# Altium integrated library Maxim Sensors.IntLib: 1172 symbols (part 35 of 61)
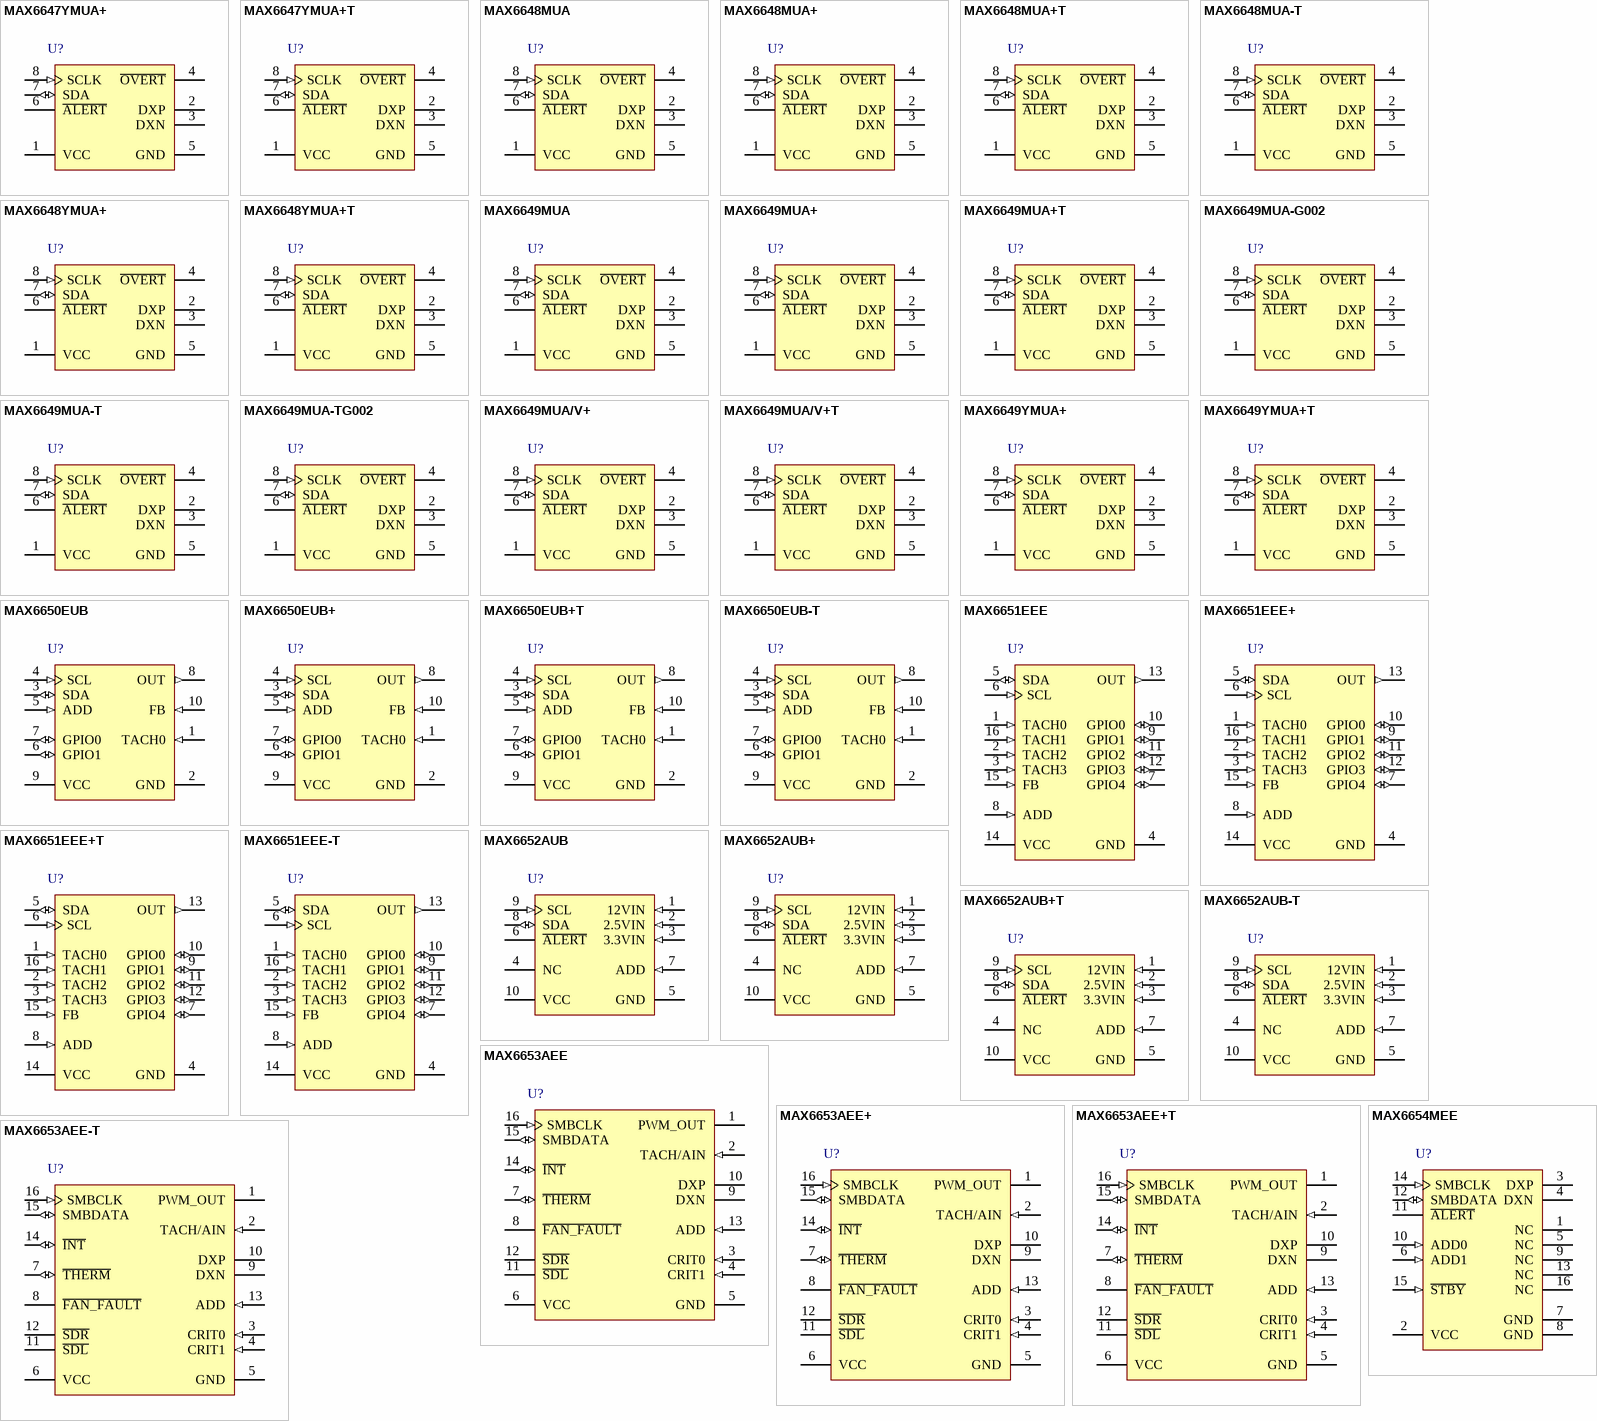
[diagram p67: symbols MAX6647YMUA+ to MAX6654MEE]

## MAX6653AEE+T
designator U?
Temperature Monitor and PWM Fan Controller, -40 to 125 degC, 16-Pin SOP (E16+5), Pb-Free, Tape and Reel; Generic Part Number: MAX6653; PartNumber: MAX6653AEE+T; Fan Controller Functions: Dual Temperature Alarms, Fan Failure Detector ,Remote & Local Sensor; Interface: 2-Wire/I2C/SMBus; DatasheetVersion: Rev. 1; PackageVersion: Rev. K, 04/2012; PackageReference: E16+5; PackageDescription: 16-Pin Quarter Small-Outline Package, Body 3.9 x 4.89 mm, Pitch 0.635 mm; Supplier 1: Digi-Key; Supplier Part Number 1: MAX6653AEE+T-ND; Supplier 2: Mouser; Supplier Part Number 2: 700-MAX6653AEET; Fan Cntrl.: PWM; Packing: Tape and Reel; Mounting Technology: Surface Mount; Code_JEDEC: MO-137; ComponentLink1Description: Manufacturer URL; ComponentLink1URL: http://www.maximintegrated.com/; ComponentLink2Description: Datasheet; ComponentLink2URL: http://datasheets.maximintegrated.com/en/ds/MAX6653-MAX6664.pdf; ComponentLink3Description: Package Specification; ComponentLink3URL: http://pdfserv.maximintegrated.com/package_dwgs/21-0055.PDF
footprint MAXM-E16+5_N (SOP, 16-Leads, Body 4.89x3.9mm, Pitch 0.635mm, IPC Medium Density)
footprint MAXM-E16+5_L (SOP, 16-Leads, Body 4.89x3.9mm, Pitch 0.635mm, IPC High Density)
footprint MAXM-E16+5_M (SOP, 16-Leads, Body 4.89x3.9mm, Pitch 0.635mm, IPC Low Density)
pins: 1 PWM_OUT (oc) "Digital Output (Open Drain). Pulse-width modulated output to external power transistor. Requires a pullup resistor (10k ohm typ).", 2 TACH/AIN (in) "Digital/Analog Input. Fan tachometer input. May be reprogrammed as an analog input to measure speed of a 2-wire fan. See Figure 5.", 3 CRIT0 (in) "Input. Used in conjunction with CRIT1 to set T\H\E\R\M\ and S\H\U\T\D\O\W\N\ default set points (see Table 1).", 4 CRIT1 (in) "Input. Used in conjunction with CRIT0 to set T\H\E\R\M\ and S\H\U\T\D\O\W\N\ default set points (see Table 1).", 5 GND (power) "Ground", 6 VCC (power) "Power Supply. Bypass with a 0.01uF capacitor to GND.", 7 ~{THERM} (io) "Digital I/O (Open Drain). An active-low thermal-overload output to indicate that the overtemperature set point has been exceeded. Also acts as an input to provide external fan control. When this pin is pulled low by an (See Datasheet)", 8 ~{FAN_FAULT} (oc) "Digital Output (Active Low, Open Drain). Signals a fan fault. Requires a pullup resistor (10k ohm typ).", 9 DXN "Combined Current Sink and A/D Negative Input. DXN is internally biased to a diode voltage above ground.", 10 DXP "Combined Current Source and A/D Positive Input for the Remote-Diode Channel. Do not leave DXP floating; connect DXP to DXN if no remote diode is used. Place a 2200pF capacitor between DXP and DXN for noise filtering.", 11 ~{SDL} (oc) "An Active-Low Open-Drain Output. It indicates that local temperature is above the shutdown set point. Normally used to directly deactivate the CPU power supply.", 12 ~{SDR} (oc) "An Active-Low Open-Drain Output. It indicates that remote temperature is above the shutdown set point. Normally used to directly deactivate the CPU power supply.", 13 ADD (in) "Three-State Logic Input. Sets the 2 lower bits of the device SMBus address (Table 2). ADD is not an ordinary logic input pin; ADD should be connected to VCC, GND, or float.", 14 ~{INT} (io) "Digital Output (Open Drain). Can be programmed as an interrupt output for temperature/fan speed interrupts. Requires a pullup resistor (10k ohm typ). For the MAX6653/MAX6663, it can be used also as an input. If pulled low, (See Datasheet)", 15 SMBDATA (io) "SMBus Serial-Data Input/Output (Open Drain). Requires a pullup resistor (10k ohm typ).", 16 SMBCLK (in) "SMBus Serial-Clock Input. Requires a pullup resistor (10k ohm typ)."

## MAX6653AEE-T
designator U?
Temperature Monitor and PWM Fan Controller, -40 to 125 degC, 16-Pin SOP (E16-5), Tape and Reel; Generic Part Number: MAX6653; PartNumber: MAX6653AEE-T; Fan Controller Functions: Dual Temperature Alarms, Fan Failure Detector ,Remote & Local Sensor; Interface: 2-Wire/I2C/SMBus; DatasheetVersion: Rev. 1; PackageVersion: Rev. K, 04/2012; PackageReference: E16-5; PackageDescription: 16-Pin Quarter Small-Outline Package, Body 3.9 x 4.89 mm, Pitch 0.635 mm; Supplier 1: Mouser; Supplier Part Number 1: N/A; Fan Cntrl.: PWM; Packing: Tape and Reel; Mounting Technology: Surface Mount; Code_JEDEC: MO-137; ComponentLink1Description: Manufacturer URL; ComponentLink1URL: http://www.maximintegrated.com/; ComponentLink2Description: Datasheet; ComponentLink2URL: http://datasheets.maximintegrated.com/en/ds/MAX6653-MAX6664.pdf; ComponentLink3Description: Package Specification; ComponentLink3URL: http://pdfserv.maximintegrated.com/package_dwgs/21-0055.PDF
footprint MAXM-E16-5_N (SOP, 16-Leads, Body 4.89x3.9mm, Pitch 0.635mm, IPC Medium Density)
footprint MAXM-E16-5_L (SOP, 16-Leads, Body 4.89x3.9mm, Pitch 0.635mm, IPC High Density)
footprint MAXM-E16-5_M (SOP, 16-Leads, Body 4.89x3.9mm, Pitch 0.635mm, IPC Low Density)
pins: 1 PWM_OUT (oc) "Digital Output (Open Drain). Pulse-width modulated output to external power transistor. Requires a pullup resistor (10k ohm typ).", 2 TACH/AIN (in) "Digital/Analog Input. Fan tachometer input. May be reprogrammed as an analog input to measure speed of a 2-wire fan. See Figure 5.", 3 CRIT0 (in) "Input. Used in conjunction with CRIT1 to set T\H\E\R\M\ and S\H\U\T\D\O\W\N\ default set points (see Table 1).", 4 CRIT1 (in) "Input. Used in conjunction with CRIT0 to set T\H\E\R\M\ and S\H\U\T\D\O\W\N\ default set points (see Table 1).", 5 GND (power) "Ground", 6 VCC (power) "Power Supply. Bypass with a 0.01uF capacitor to GND.", 7 ~{THERM} (io) "Digital I/O (Open Drain). An active-low thermal-overload output to indicate that the overtemperature set point has been exceeded. Also acts as an input to provide external fan control. When this pin is pulled low by an (See Datasheet)", 8 ~{FAN_FAULT} (oc) "Digital Output (Active Low, Open Drain). Signals a fan fault. Requires a pullup resistor (10k ohm typ).", 9 DXN "Combined Current Sink and A/D Negative Input. DXN is internally biased to a diode voltage above ground.", 10 DXP "Combined Current Source and A/D Positive Input for the Remote-Diode Channel. Do not leave DXP floating; connect DXP to DXN if no remote diode is used. Place a 2200pF capacitor between DXP and DXN for noise filtering.", 11 ~{SDL} (oc) "An Active-Low Open-Drain Output. It indicates that local temperature is above the shutdown set point. Normally used to directly deactivate the CPU power supply.", 12 ~{SDR} (oc) "An Active-Low Open-Drain Output. It indicates that remote temperature is above the shutdown set point. Normally used to directly deactivate the CPU power supply.", 13 ADD (in) "Three-State Logic Input. Sets the 2 lower bits of the device SMBus address (Table 2). ADD is not an ordinary logic input pin; ADD should be connected to VCC, GND, or float.", 14 ~{INT} (io) "Digital Output (Open Drain). Can be programmed as an interrupt output for temperature/fan speed interrupts. Requires a pullup resistor (10k ohm typ). For the MAX6653/MAX6663, it can be used also as an input. If pulled low, (See Datasheet)", 15 SMBDATA (io) "SMBus Serial-Data Input/Output (Open Drain). Requires a pullup resistor (10k ohm typ).", 16 SMBCLK (in) "SMBus Serial-Clock Input. Requires a pullup resistor (10k ohm typ)."

## MAX6654MEE
designator U?
1 degrees Accurate Remote / Local Temperature Sensor with SMBus Serial Interface, 11 Bits Temperature Resolution, -55 to 125 degC, 16-Pin SOP (E16-1); Generic Part Number: MAX6654; PartNumber: MAX6654MEE; Alarm Output: Alert; Functions: Remote & Local Sensor; Interface: 2-Wire/I2C/SMBus; Multi Droppable: Yes; Parasite Pwr.: No; DatasheetVersion: Rev. 3; PackageVersion: Rev. K, 04/2012; PackageReference: E16-1; PackageDescription: 16-Pin Quarter Small-Outline Package (E16-1), Body 4.90 x 3.89 mm, Pitch 0.635 mm; Supplier 1: Mouser; Supplier Part Number 1: N/A; Mounting Technology: Surface Mount; Code_JEDEC: MO137; ComponentLink1Description: Manufacturer URL; ComponentLink1URL: http://www.maximintegrated.com/; ComponentLink2Description: Datasheet; ComponentLink2URL: http://datasheets.maximintegrated.com/en/ds/MAX6654.pdf; ComponentLink3Description: Package Specification; ComponentLink3URL: http://pdfserv.maximintegrated.com/package_dwgs/21-0055.PDF
footprint MAXM-E16-1_N (SOP, 16-Leads, Body 4.9x3.89mm, Pitch 0.635mm, IPC Medium Density)
footprint MAXM-E16-1_L (SOP, 16-Leads, Body 4.9x3.89mm, Pitch 0.635mm, IPC High Density)
footprint MAXM-E16-1_M (SOP, 16-Leads, Body 4.9x3.89mm, Pitch 0.635mm, IPC Low Density)
pins: 1 NC "No Connection. Not internally connected. May be used for PC board trace routing.", 2 VCC (power) "Supply Voltage Input. +3.0V to +5.5V. Bypass to GND with a 0.1uF capacitor. A 200ohm series resistor is recommended but not required for additional noise filtering.", 3 DXP "Combined Current Source and ADC Positive Input for Remote-Junction Channel. If a remotesensing junction is not used, connect DXP to DXN.", 4 DXN "Combined Current Sink and ADC Negative Input. DXN is internally biased to a diode voltage above ground.", 5 NC "No Connection. Not internally connected. May be used for PC board trace routing.", 6 ADD1 (in) "SMBus Slave Address Select Input. ADD0 and ADD1 are sampled upon power-up.", 7 GND (power) "Ground", 8 GND (power) "Ground", 9 NC "No Connection. Not internally connected. May be used for PC board trace routing.", 10 ADD0 (in) "SMBus Slave Address Select Input. ADD0 and ADD1 are sampled upon power-up.", 11 ~{ALERT} (oc) "SMBus Alert (Interrupt) Output. Open drain.", 12 SMBDATA (io) "SMBus Serial-Data Input/Output. Open drain.", 13 NC "No Connection. Not internally connected. May be used for PC board trace routing.", 14 SMBCLK (in) "SMBus Serial-Clock Input", 15 ~{STBY} (in) "Hardware Standby Input. Temperature and comparison threshold data are retained in standby mode. Low = standby mode, high = operating mode.", 16 NC "No Connection. Not internally connected. May be used for PC board trace routing."

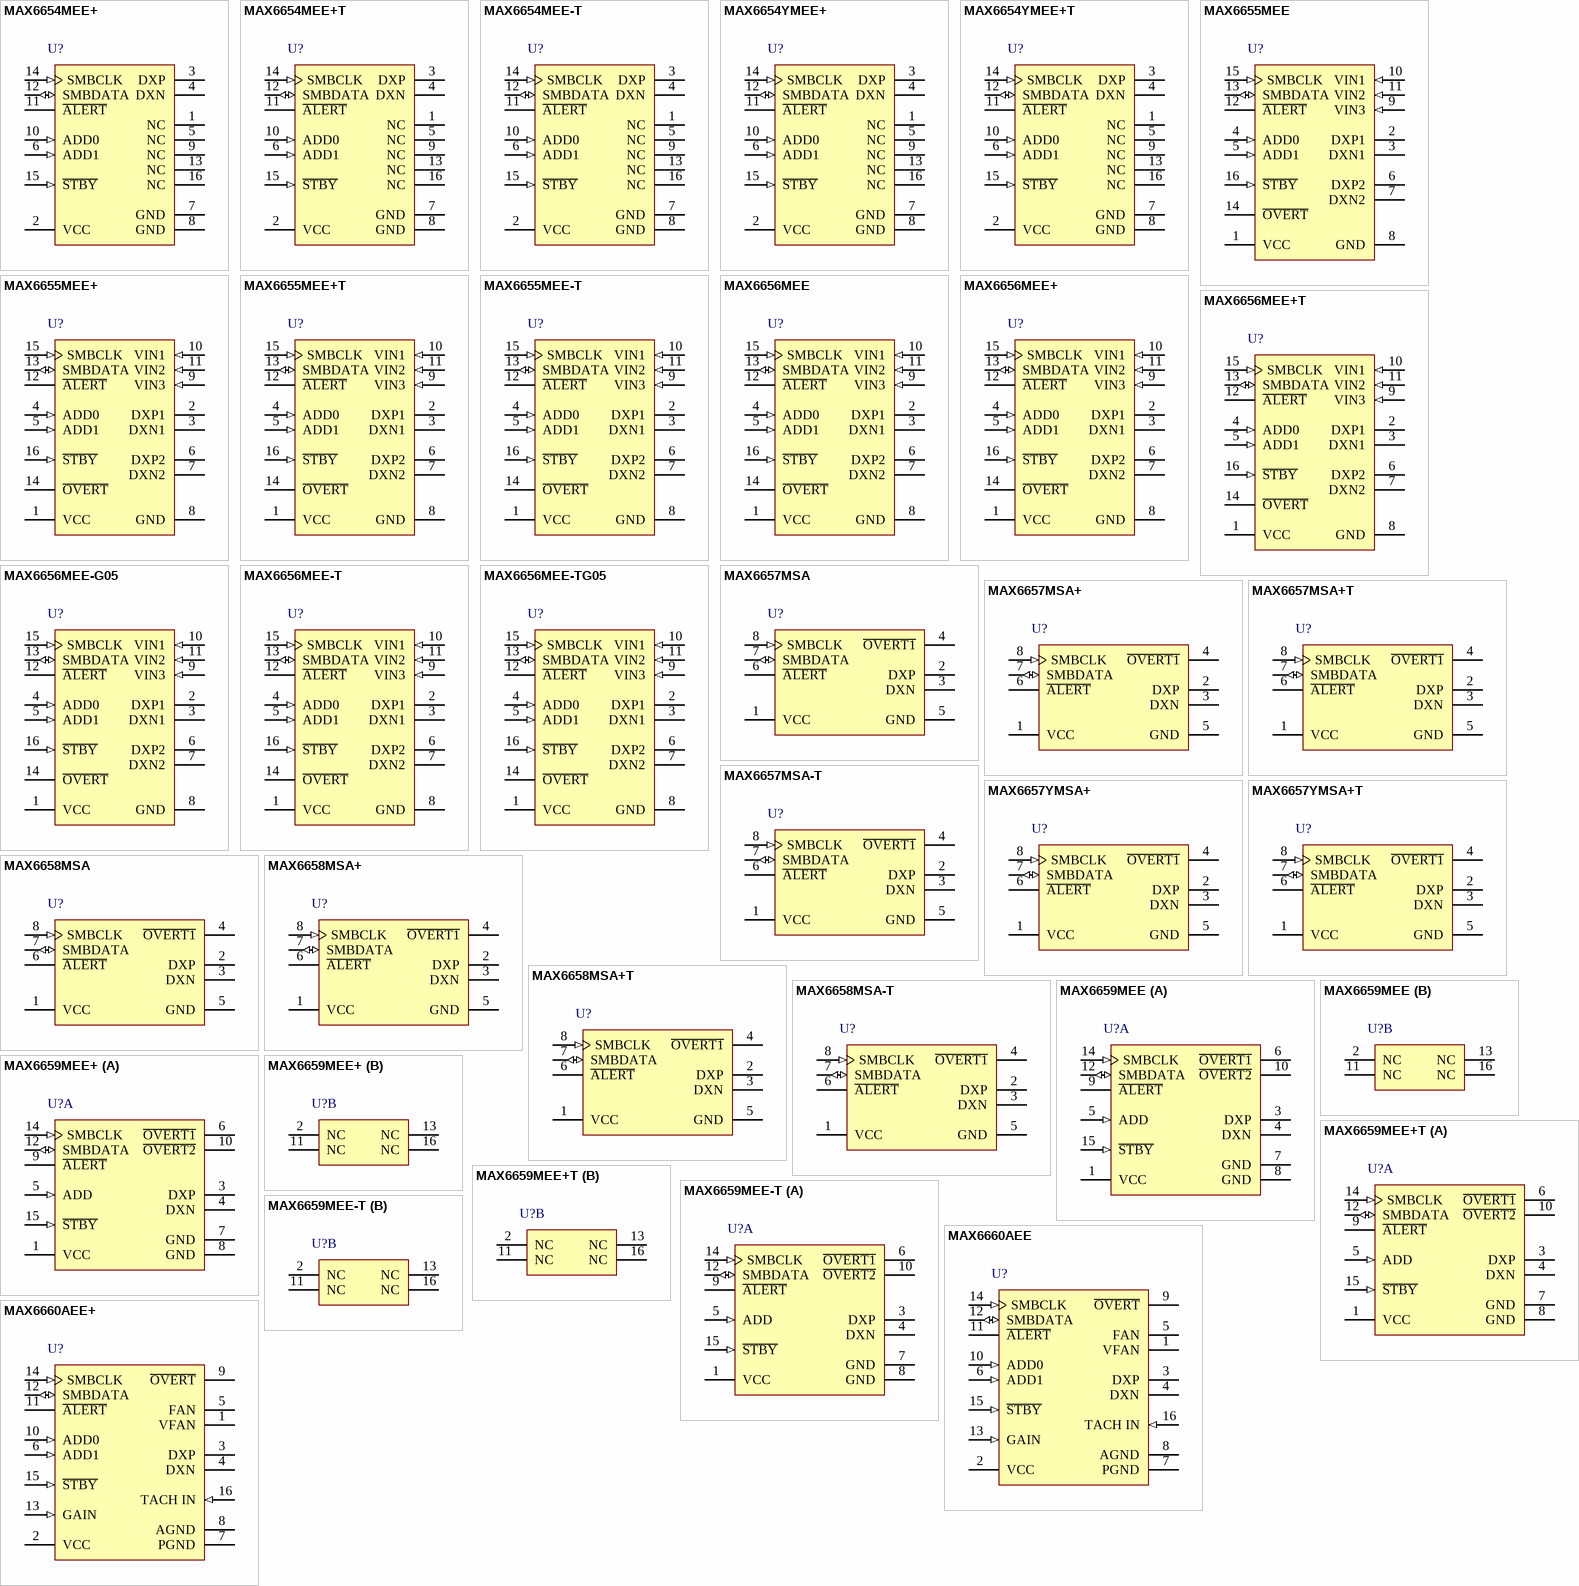
[diagram p20: symbols MAX6654MEE+ to MAX6660AEE+]

## MAX6654MEE+
designator U?
1 degrees Accurate Remote / Local Temperature Sensor with SMBus Serial Interface, 11 Bits Temperature Resolution, -55 to 125 degC, 16-Pin SOP (E16+1), Pb-Free; Generic Part Number: MAX6654; PartNumber: MAX6654MEE+; Alarm Output: Alert; Functions: Remote & Local Sensor; Interface: 2-Wire/I2C/SMBus; Multi Droppable: Yes; Parasite Pwr.: No; DatasheetVersion: Rev. 3; PackageVersion: Rev. K, 04/2012; PackageReference: E16+1; PackageDescription: 16-Pin Quarter Small-Outline Package (E16+1), Body 4.90 x 3.89 mm, Pitch 0.635 mm; Supplier 1: Digi-Key; Supplier Part Number 1: MAX6654MEE+-ND; Supplier 2: Newark; Supplier Part Number 2: 37K8064; Supplier 3: Mouser; Supplier Part Number 3: 700-MAX6654MEE; Mounting Technology: Surface Mount; Code_JEDEC: MO137; ComponentLink1Description: Manufacturer URL; ComponentLink1URL: http://www.maximintegrated.com/; ComponentLink2Description: Datasheet; ComponentLink2URL: http://datasheets.maximintegrated.com/en/ds/MAX6654.pdf; ComponentLink3Description: Package Specification; ComponentLink3URL: http://pdfserv.maximintegrated.com/package_dwgs/21-0055.PDF
footprint MAXM-E16+1_N (SOP, 16-Leads, Body 4.9x3.89mm, Pitch 0.635mm, IPC Medium Density)
footprint MAXM-E16+1_L (SOP, 16-Leads, Body 4.9x3.89mm, Pitch 0.635mm, IPC High Density)
footprint MAXM-E16+1_M (SOP, 16-Leads, Body 4.9x3.89mm, Pitch 0.635mm, IPC Low Density)
pins: 1 NC "No Connection. Not internally connected. May be used for PC board trace routing.", 2 VCC (power) "Supply Voltage Input. +3.0V to +5.5V. Bypass to GND with a 0.1uF capacitor. A 200ohm series resistor is recommended but not required for additional noise filtering.", 3 DXP "Combined Current Source and ADC Positive Input for Remote-Junction Channel. If a remotesensing junction is not used, connect DXP to DXN.", 4 DXN "Combined Current Sink and ADC Negative Input. DXN is internally biased to a diode voltage above ground.", 5 NC "No Connection. Not internally connected. May be used for PC board trace routing.", 6 ADD1 (in) "SMBus Slave Address Select Input. ADD0 and ADD1 are sampled upon power-up.", 7 GND (power) "Ground", 8 GND (power) "Ground", 9 NC "No Connection. Not internally connected. May be used for PC board trace routing.", 10 ADD0 (in) "SMBus Slave Address Select Input. ADD0 and ADD1 are sampled upon power-up.", 11 ~{ALERT} (oc) "SMBus Alert (Interrupt) Output. Open drain.", 12 SMBDATA (io) "SMBus Serial-Data Input/Output. Open drain.", 13 NC "No Connection. Not internally connected. May be used for PC board trace routing.", 14 SMBCLK (in) "SMBus Serial-Clock Input", 15 ~{STBY} (in) "Hardware Standby Input. Temperature and comparison threshold data are retained in standby mode. Low = standby mode, high = operating mode.", 16 NC "No Connection. Not internally connected. May be used for PC board trace routing."

## MAX6654MEE+T
designator U?
1 degrees Accurate Remote / Local Temperature Sensor with SMBus Serial Interface, 11 Bits Temperature Resolution, -55 to 125 degC, 16-Pin SOP (E16+1), Pb-Free, Tape and Reel; Generic Part Number: MAX6654; PartNumber: MAX6654MEE+T; Alarm Output: Alert; Functions: Remote & Local Sensor; Interface: 2-Wire/I2C/SMBus; Multi Droppable: Yes; Parasite Pwr.: No; DatasheetVersion: Rev. 3; PackageVersion: Rev. K, 04/2012; PackageReference: E16+1; PackageDescription: 16-Pin Quarter Small-Outline Package (E16+1), Body 4.90 x 3.89 mm, Pitch 0.635 mm; Supplier 1: Digi-Key; Supplier Part Number 1: MAX6654MEE+TTR-ND; Supplier 2: Digi-Key; Supplier Part Number 2: MAX6654MEE+TCT-ND; Supplier 3: Digi-Key; Supplier Part Number 3: MAX6654MEE+TDKR-ND; Supplier 4: Mouser; Supplier Part Number 4: 700-MAX6654MEET; Packing: Tape and Reel; Mounting Technology: Surface Mount; Code_JEDEC: MO137; ComponentLink1Description: Manufacturer URL; ComponentLink1URL: http://www.maximintegrated.com/; ComponentLink2Description: Datasheet; ComponentLink2URL: http://datasheets.maximintegrated.com/en/ds/MAX6654.pdf; ComponentLink3Description: Package Specification; ComponentLink3URL: http://pdfserv.maximintegrated.com/package_dwgs/21-0055.PDF
footprint MAXM-E16+1_N (SOP, 16-Leads, Body 4.9x3.89mm, Pitch 0.635mm, IPC Medium Density)
footprint MAXM-E16+1_L (SOP, 16-Leads, Body 4.9x3.89mm, Pitch 0.635mm, IPC High Density)
footprint MAXM-E16+1_M (SOP, 16-Leads, Body 4.9x3.89mm, Pitch 0.635mm, IPC Low Density)
pins: 1 NC "No Connection. Not internally connected. May be used for PC board trace routing.", 2 VCC (power) "Supply Voltage Input. +3.0V to +5.5V. Bypass to GND with a 0.1uF capacitor. A 200ohm series resistor is recommended but not required for additional noise filtering.", 3 DXP "Combined Current Source and ADC Positive Input for Remote-Junction Channel. If a remotesensing junction is not used, connect DXP to DXN.", 4 DXN "Combined Current Sink and ADC Negative Input. DXN is internally biased to a diode voltage above ground.", 5 NC "No Connection. Not internally connected. May be used for PC board trace routing.", 6 ADD1 (in) "SMBus Slave Address Select Input. ADD0 and ADD1 are sampled upon power-up.", 7 GND (power) "Ground", 8 GND (power) "Ground", 9 NC "No Connection. Not internally connected. May be used for PC board trace routing.", 10 ADD0 (in) "SMBus Slave Address Select Input. ADD0 and ADD1 are sampled upon power-up.", 11 ~{ALERT} (oc) "SMBus Alert (Interrupt) Output. Open drain.", 12 SMBDATA (io) "SMBus Serial-Data Input/Output. Open drain.", 13 NC "No Connection. Not internally connected. May be used for PC board trace routing.", 14 SMBCLK (in) "SMBus Serial-Clock Input", 15 ~{STBY} (in) "Hardware Standby Input. Temperature and comparison threshold data are retained in standby mode. Low = standby mode, high = operating mode.", 16 NC "No Connection. Not internally connected. May be used for PC board trace routing."

## MAX6654MEE-T
designator U?
1 degrees Accurate Remote / Local Temperature Sensor with SMBus Serial Interface, 11 Bits Temperature Resolution, -55 to 125 degC, 16-Pin SOP (E16-1), Tape and Reel; Generic Part Number: MAX6654; PartNumber: MAX6654MEE-T; Alarm Output: Alert; Functions: Remote & Local Sensor; Interface: 2-Wire/I2C/SMBus; Multi Droppable: Yes; Parasite Pwr.: No; DatasheetVersion: Rev. 3; PackageVersion: Rev. K, 04/2012; PackageReference: E16-1; PackageDescription: 16-Pin Quarter Small-Outline Package (E16-1), Body 4.90 x 3.89 mm, Pitch 0.635 mm; Supplier 1: Mouser; Supplier Part Number 1: N/A; Packing: Tape and Reel; Mounting Technology: Surface Mount; Code_JEDEC: MO137; ComponentLink1Description: Manufacturer URL; ComponentLink1URL: http://www.maximintegrated.com/; ComponentLink2Description: Datasheet; ComponentLink2URL: http://datasheets.maximintegrated.com/en/ds/MAX6654.pdf; ComponentLink3Description: Package Specification; ComponentLink3URL: http://pdfserv.maximintegrated.com/package_dwgs/21-0055.PDF
footprint MAXM-E16-1_N (SOP, 16-Leads, Body 4.9x3.89mm, Pitch 0.635mm, IPC Medium Density)
footprint MAXM-E16-1_L (SOP, 16-Leads, Body 4.9x3.89mm, Pitch 0.635mm, IPC High Density)
footprint MAXM-E16-1_M (SOP, 16-Leads, Body 4.9x3.89mm, Pitch 0.635mm, IPC Low Density)
pins: 1 NC "No Connection. Not internally connected. May be used for PC board trace routing.", 2 VCC (power) "Supply Voltage Input. +3.0V to +5.5V. Bypass to GND with a 0.1uF capacitor. A 200ohm series resistor is recommended but not required for additional noise filtering.", 3 DXP "Combined Current Source and ADC Positive Input for Remote-Junction Channel. If a remotesensing junction is not used, connect DXP to DXN.", 4 DXN "Combined Current Sink and ADC Negative Input. DXN is internally biased to a diode voltage above ground.", 5 NC "No Connection. Not internally connected. May be used for PC board trace routing.", 6 ADD1 (in) "SMBus Slave Address Select Input. ADD0 and ADD1 are sampled upon power-up.", 7 GND (power) "Ground", 8 GND (power) "Ground", 9 NC "No Connection. Not internally connected. May be used for PC board trace routing.", 10 ADD0 (in) "SMBus Slave Address Select Input. ADD0 and ADD1 are sampled upon power-up.", 11 ~{ALERT} (oc) "SMBus Alert (Interrupt) Output. Open drain.", 12 SMBDATA (io) "SMBus Serial-Data Input/Output. Open drain.", 13 NC "No Connection. Not internally connected. May be used for PC board trace routing.", 14 SMBCLK (in) "SMBus Serial-Clock Input", 15 ~{STBY} (in) "Hardware Standby Input. Temperature and comparison threshold data are retained in standby mode. Low = standby mode, high = operating mode.", 16 NC "No Connection. Not internally connected. May be used for PC board trace routing."

## MAX6654YMEE+
designator U?
1 degrees Accurate Remote / Local Temperature Sensor with SMBus Serial Interface, 11 Bits Temperature Resolution, -55 to 125 degC, 16-Pin SOP (E16+1), Pb-Free; Generic Part Number: MAX6654; PartNumber: MAX6654YMEE+; Alarm Output: Alert; Functions: Remote & Local Sensor; Interface: 2-Wire/I2C/SMBus; Multi Droppable: Yes; Parasite Pwr.: No; DatasheetVersion: Rev. 3; PackageVersion: Rev. K, 04/2012; PackageReference: E16+1; PackageDescription: 16-Pin Quarter Small-Outline Package (E16+1), Body 4.90 x 3.89 mm, Pitch 0.635 mm; Supplier 1: Digi-Key; Supplier Part Number 1: MAX6654YMEE+-ND; Supplier 2: Mouser; Supplier Part Number 2: 700-MAX6654YMEE; Mounting Technology: Surface Mount; Code_JEDEC: MO137; ComponentLink1Description: Manufacturer URL; ComponentLink1URL: http://www.maximintegrated.com/; ComponentLink2Description: Datasheet; ComponentLink2URL: http://datasheets.maximintegrated.com/en/ds/MAX6654.pdf; ComponentLink3Description: Package Specification; ComponentLink3URL: http://pdfserv.maximintegrated.com/package_dwgs/21-0055.PDF
footprint MAXM-E16+1_N (SOP, 16-Leads, Body 4.9x3.89mm, Pitch 0.635mm, IPC Medium Density)
footprint MAXM-E16+1_L (SOP, 16-Leads, Body 4.9x3.89mm, Pitch 0.635mm, IPC High Density)
footprint MAXM-E16+1_M (SOP, 16-Leads, Body 4.9x3.89mm, Pitch 0.635mm, IPC Low Density)
pins: 1 NC "No Connection. Not internally connected. May be used for PC board trace routing.", 2 VCC (power) "Supply Voltage Input. +3.0V to +5.5V. Bypass to GND with a 0.1uF capacitor. A 200ohm series resistor is recommended but not required for additional noise filtering.", 3 DXP "Combined Current Source and ADC Positive Input for Remote-Junction Channel. If a remotesensing junction is not used, connect DXP to DXN.", 4 DXN "Combined Current Sink and ADC Negative Input. DXN is internally biased to a diode voltage above ground.", 5 NC "No Connection. Not internally connected. May be used for PC board trace routing.", 6 ADD1 (in) "SMBus Slave Address Select Input. ADD0 and ADD1 are sampled upon power-up.", 7 GND (power) "Ground", 8 GND (power) "Ground", 9 NC "No Connection. Not internally connected. May be used for PC board trace routing.", 10 ADD0 (in) "SMBus Slave Address Select Input. ADD0 and ADD1 are sampled upon power-up.", 11 ~{ALERT} (oc) "SMBus Alert (Interrupt) Output. Open drain.", 12 SMBDATA (io) "SMBus Serial-Data Input/Output. Open drain.", 13 NC "No Connection. Not internally connected. May be used for PC board trace routing.", 14 SMBCLK (in) "SMBus Serial-Clock Input", 15 ~{STBY} (in) "Hardware Standby Input. Temperature and comparison threshold data are retained in standby mode. Low = standby mode, high = operating mode.", 16 NC "No Connection. Not internally connected. May be used for PC board trace routing."

## MAX6654YMEE+T
designator U?
1 degrees Accurate Remote / Local Temperature Sensor with SMBus Serial Interface, 11 Bits Temperature Resolution, -55 to 125 degC, 16-Pin SOP (E16+1), Pb-Free, Tape and Reel; Generic Part Number: MAX6654; PartNumber: MAX6654YMEE+T; Alarm Output: Alert; Functions: Remote & Local Sensor; Interface: 2-Wire/I2C/SMBus; Multi Droppable: Yes; Parasite Pwr.: No; DatasheetVersion: Rev. 3; PackageVersion: Rev. K, 04/2012; PackageReference: E16+1; PackageDescription: 16-Pin Quarter Small-Outline Package (E16+1), Body 4.90 x 3.89 mm, Pitch 0.635 mm; Supplier 1: Digi-Key; Supplier Part Number 1: MAX6654YMEE+T-ND; Supplier 2: Mouser; Supplier Part Number 2: 700-MAX6654YMEET; Packing: Tape and Reel; Mounting Technology: Surface Mount; Code_JEDEC: MO137; ComponentLink1Description: Manufacturer URL; ComponentLink1URL: http://www.maximintegrated.com/; ComponentLink2Description: Datasheet; ComponentLink2URL: http://datasheets.maximintegrated.com/en/ds/MAX6654.pdf; ComponentLink3Description: Package Specification; ComponentLink3URL: http://pdfserv.maximintegrated.com/package_dwgs/21-0055.PDF
footprint MAXM-E16+1_N (SOP, 16-Leads, Body 4.9x3.89mm, Pitch 0.635mm, IPC Medium Density)
footprint MAXM-E16+1_L (SOP, 16-Leads, Body 4.9x3.89mm, Pitch 0.635mm, IPC High Density)
footprint MAXM-E16+1_M (SOP, 16-Leads, Body 4.9x3.89mm, Pitch 0.635mm, IPC Low Density)
pins: 1 NC "No Connection. Not internally connected. May be used for PC board trace routing.", 2 VCC (power) "Supply Voltage Input. +3.0V to +5.5V. Bypass to GND with a 0.1uF capacitor. A 200ohm series resistor is recommended but not required for additional noise filtering.", 3 DXP "Combined Current Source and ADC Positive Input for Remote-Junction Channel. If a remotesensing junction is not used, connect DXP to DXN.", 4 DXN "Combined Current Sink and ADC Negative Input. DXN is internally biased to a diode voltage above ground.", 5 NC "No Connection. Not internally connected. May be used for PC board trace routing.", 6 ADD1 (in) "SMBus Slave Address Select Input. ADD0 and ADD1 are sampled upon power-up.", 7 GND (power) "Ground", 8 GND (power) "Ground", 9 NC "No Connection. Not internally connected. May be used for PC board trace routing.", 10 ADD0 (in) "SMBus Slave Address Select Input. ADD0 and ADD1 are sampled upon power-up.", 11 ~{ALERT} (oc) "SMBus Alert (Interrupt) Output. Open drain.", 12 SMBDATA (io) "SMBus Serial-Data Input/Output. Open drain.", 13 NC "No Connection. Not internally connected. May be used for PC board trace routing.", 14 SMBCLK (in) "SMBus Serial-Clock Input", 15 ~{STBY} (in) "Hardware Standby Input. Temperature and comparison threshold data are retained in standby mode. Low = standby mode, high = operating mode.", 16 NC "No Connection. Not internally connected. May be used for PC board trace routing."

## MAX6655MEE
designator U?
Dual Remote / Local Temperature Sensor and Four-Channel Voltage Monitor, 11 Bits Temperature Resolution, -55 to 125 degC, 16-Pin SOP (E16+5); Generic Part Number: MAX6655; PartNumber: MAX6655MEE; Alarm Output: Alert, Overt; Functions: Remote & Local Sensor, Voltage Monitor; Interface: 2-Wire/I2C/SMBus; Multi Droppable: Yes; Parasite Pwr.: No; DatasheetVersion: Rev. 1; PackageVersion: Rev. K, 04/2012; PackageReference: E16-5; PackageDescription: 16-Pin Quarter Small-Outline Package, Body 3.9 x 4.89 mm, Pitch 0.635 mm; Supplier 1: Mouser; Supplier Part Number 1: N/A; Mounting Technology: Surface Mount; Code_JEDEC: MO-137; ComponentLink1Description: Manufacturer URL; ComponentLink1URL: http://www.maximintegrated.com/; ComponentLink2Description: Datasheet; ComponentLink2URL: http://datasheets.maximintegrated.com/en/ds/MAX6655-MAX6656.pdf; ComponentLink3Description: Package Specification; ComponentLink3URL: http://pdfserv.maximintegrated.com/package_dwgs/21-0055.PDF
footprint MAXM-E16-5_N (SOP, 16-Leads, Body 4.89x3.9mm, Pitch 0.635mm, IPC Medium Density)
footprint MAXM-E16-5_L (SOP, 16-Leads, Body 4.89x3.9mm, Pitch 0.635mm, IPC High Density)
footprint MAXM-E16-5_M (SOP, 16-Leads, Body 4.89x3.9mm, Pitch 0.635mm, IPC Low Density)
pins: 1 VCC (power) "Supply Voltage. +5V for MAX6655; +3.3V for MAX6656. Bypass VCC to GND with a 0.1µF capacitor.", 2 DXP1 "External Diode 1 Positive Connection. DXP1 is the combined current source and ADC positive input for remote-diode 1. If a remote-sensing junction is not used, connect DXP1 to DXN1.", 3 DXN1 "External Diode 1 Negative Connection. DXN1 is the combined current sink and ADC negative input for remote-diode 1. DXN1 is normally biased to a diode voltage above ground.", 4 ADD0 (in) "SMBus Slave Address Select Input. ADD0 and ADD1 are sampled upon power-up. Table 5 is the truth table", 5 ADD1 (in) "SMBus Slave Address Select Input. ADD0 and ADD1 are sampled upon power-up.", 6 DXP2 "External Diode 2 Positive Connection. DXP2 is the combined current source and ADC positive input for remote-diode 2. If a remote-sensing junction is not used, connect DXP2 to DXN2.", 7 DXN2 "External Diode 2 Negative Connection. DXN2 is the combined current sink and ADC negative input for remote-diode 2. DXN2 is normally biased to a diode voltage above ground.", 8 GND (power) "Ground", 9 VIN3 (in) "External Voltage Monitor 3. VIN3 is typically used to monitor +2.5V supplies.", 10 VIN1 (in) "External Voltage Monitor 1. VIN1 is typically used to monitor +12V supplies.", 11 VIN2 (in) "External Voltage Monitor 2. VIN2 is typically used to monitor voltage supplies of +3.3V for MAX6655 and +5.0V for MAX6656.", 12 ~{ALERT} (oc) "SMBus Alert (Interrupt) Output, Open-Drain", 13 SMBDATA (io) "SMBus Serial-Data Input/Output, Open-Drain", 14 ~{OVERT} (oc) "Overtemperature Alarm Output, Open-Drain. O\V\E\R\T\ is an unlatched alarm output that responds to the programmed maximum temperature limit for all temperature channels.", 15 SMBCLK (in) "SMBus Serial-Clock Input", 16 ~{STBY} (in) "Hardware Standby Input. Drive S\T\B\Y\ low for low-power standby mode. Drive S\T\B\Y\ high for normal operating mode. Temperature and comparison threshold data are retained in standby mode."

## MAX6655MEE+
designator U?
Dual Remote / Local Temperature Sensor and Four-Channel Voltage Monitor, 11 Bits Temperature Resolution, -55 to 125 degC, 16-Pin SOP (E16+5), Pb-Free; Generic Part Number: MAX6655; PartNumber: MAX6655MEE+; Alarm Output: Alert, Overt; Functions: Remote & Local Sensor, Voltage Monitor; Interface: 2-Wire/I2C/SMBus; Multi Droppable: Yes; Parasite Pwr.: No; DatasheetVersion: Rev. 1; PackageVersion: Rev. K, 04/2012; PackageReference: E16+5; PackageDescription: 16-Pin Quarter Small-Outline Package, Body 3.9 x 4.89 mm, Pitch 0.635 mm; Supplier 1: Digi-Key; Supplier Part Number 1: MAX6655MEE+-ND; Supplier 2: Mouser; Supplier Part Number 2: 700-MAX6655MEE; Mounting Technology: Surface Mount; Code_JEDEC: MO-137; ComponentLink1Description: Manufacturer URL; ComponentLink1URL: http://www.maximintegrated.com/; ComponentLink2Description: Datasheet; ComponentLink2URL: http://datasheets.maximintegrated.com/en/ds/MAX6655-MAX6656.pdf; ComponentLink3Description: Package Specification; ComponentLink3URL: http://pdfserv.maximintegrated.com/package_dwgs/21-0055.PDF
footprint MAXM-E16+5_N (SOP, 16-Leads, Body 4.89x3.9mm, Pitch 0.635mm, IPC Medium Density)
footprint MAXM-E16+5_L (SOP, 16-Leads, Body 4.89x3.9mm, Pitch 0.635mm, IPC High Density)
footprint MAXM-E16+5_M (SOP, 16-Leads, Body 4.89x3.9mm, Pitch 0.635mm, IPC Low Density)
pins: 1 VCC (power) "Supply Voltage. +5V for MAX6655; +3.3V for MAX6656. Bypass VCC to GND with a 0.1µF capacitor.", 2 DXP1 "External Diode 1 Positive Connection. DXP1 is the combined current source and ADC positive input for remote-diode 1. If a remote-sensing junction is not used, connect DXP1 to DXN1.", 3 DXN1 "External Diode 1 Negative Connection. DXN1 is the combined current sink and ADC negative input for remote-diode 1. DXN1 is normally biased to a diode voltage above ground.", 4 ADD0 (in) "SMBus Slave Address Select Input. ADD0 and ADD1 are sampled upon power-up. Table 5 is the truth table", 5 ADD1 (in) "SMBus Slave Address Select Input. ADD0 and ADD1 are sampled upon power-up.", 6 DXP2 "External Diode 2 Positive Connection. DXP2 is the combined current source and ADC positive input for remote-diode 2. If a remote-sensing junction is not used, connect DXP2 to DXN2.", 7 DXN2 "External Diode 2 Negative Connection. DXN2 is the combined current sink and ADC negative input for remote-diode 2. DXN2 is normally biased to a diode voltage above ground.", 8 GND (power) "Ground", 9 VIN3 (in) "External Voltage Monitor 3. VIN3 is typically used to monitor +2.5V supplies.", 10 VIN1 (in) "External Voltage Monitor 1. VIN1 is typically used to monitor +12V supplies.", 11 VIN2 (in) "External Voltage Monitor 2. VIN2 is typically used to monitor voltage supplies of +3.3V for MAX6655 and +5.0V for MAX6656.", 12 ~{ALERT} (oc) "SMBus Alert (Interrupt) Output, Open-Drain", 13 SMBDATA (io) "SMBus Serial-Data Input/Output, Open-Drain", 14 ~{OVERT} (oc) "Overtemperature Alarm Output, Open-Drain. O\V\E\R\T\ is an unlatched alarm output that responds to the programmed maximum temperature limit for all temperature channels.", 15 SMBCLK (in) "SMBus Serial-Clock Input", 16 ~{STBY} (in) "Hardware Standby Input. Drive S\T\B\Y\ low for low-power standby mode. Drive S\T\B\Y\ high for normal operating mode. Temperature and comparison threshold data are retained in standby mode."

## MAX6655MEE+T
designator U?
Dual Remote / Local Temperature Sensor and Four-Channel Voltage Monitor, 11 Bits Temperature Resolution, -55 to 125 degC, 16-Pin SOP (E16+5), Pb-Free, Tape and Reel; Generic Part Number: MAX6655; PartNumber: MAX6655MEE+T; Alarm Output: Alert, Overt; Functions: Remote & Local Sensor, Voltage Monitor; Interface: 2-Wire/I2C/SMBus; Multi Droppable: Yes; Parasite Pwr.: No; DatasheetVersion: Rev. 1; PackageVersion: Rev. K, 04/2012; PackageReference: E16+5; PackageDescription: 16-Pin Quarter Small-Outline Package, Body 3.9 x 4.89 mm, Pitch 0.635 mm; Supplier 1: Digi-Key; Supplier Part Number 1: MAX6655MEE+T-ND; Supplier 2: Mouser; Supplier Part Number 2: 700-MAX6655MEET; Packing: Tape and Reel; Mounting Technology: Surface Mount; Code_JEDEC: MO-137; ComponentLink1Description: Manufacturer URL; ComponentLink1URL: http://www.maximintegrated.com/; ComponentLink2Description: Datasheet; ComponentLink2URL: http://datasheets.maximintegrated.com/en/ds/MAX6655-MAX6656.pdf; ComponentLink3Description: Package Specification; ComponentLink3URL: http://pdfserv.maximintegrated.com/package_dwgs/21-0055.PDF
footprint MAXM-E16+5_N (SOP, 16-Leads, Body 4.89x3.9mm, Pitch 0.635mm, IPC Medium Density)
footprint MAXM-E16+5_L (SOP, 16-Leads, Body 4.89x3.9mm, Pitch 0.635mm, IPC High Density)
footprint MAXM-E16+5_M (SOP, 16-Leads, Body 4.89x3.9mm, Pitch 0.635mm, IPC Low Density)
pins: 1 VCC (power) "Supply Voltage. +5V for MAX6655; +3.3V for MAX6656. Bypass VCC to GND with a 0.1µF capacitor.", 2 DXP1 "External Diode 1 Positive Connection. DXP1 is the combined current source and ADC positive input for remote-diode 1. If a remote-sensing junction is not used, connect DXP1 to DXN1.", 3 DXN1 "External Diode 1 Negative Connection. DXN1 is the combined current sink and ADC negative input for remote-diode 1. DXN1 is normally biased to a diode voltage above ground.", 4 ADD0 (in) "SMBus Slave Address Select Input. ADD0 and ADD1 are sampled upon power-up. Table 5 is the truth table", 5 ADD1 (in) "SMBus Slave Address Select Input. ADD0 and ADD1 are sampled upon power-up.", 6 DXP2 "External Diode 2 Positive Connection. DXP2 is the combined current source and ADC positive input for remote-diode 2. If a remote-sensing junction is not used, connect DXP2 to DXN2.", 7 DXN2 "External Diode 2 Negative Connection. DXN2 is the combined current sink and ADC negative input for remote-diode 2. DXN2 is normally biased to a diode voltage above ground.", 8 GND (power) "Ground", 9 VIN3 (in) "External Voltage Monitor 3. VIN3 is typically used to monitor +2.5V supplies.", 10 VIN1 (in) "External Voltage Monitor 1. VIN1 is typically used to monitor +12V supplies.", 11 VIN2 (in) "External Voltage Monitor 2. VIN2 is typically used to monitor voltage supplies of +3.3V for MAX6655 and +5.0V for MAX6656.", 12 ~{ALERT} (oc) "SMBus Alert (Interrupt) Output, Open-Drain", 13 SMBDATA (io) "SMBus Serial-Data Input/Output, Open-Drain", 14 ~{OVERT} (oc) "Overtemperature Alarm Output, Open-Drain. O\V\E\R\T\ is an unlatched alarm output that responds to the programmed maximum temperature limit for all temperature channels.", 15 SMBCLK (in) "SMBus Serial-Clock Input", 16 ~{STBY} (in) "Hardware Standby Input. Drive S\T\B\Y\ low for low-power standby mode. Drive S\T\B\Y\ high for normal operating mode. Temperature and comparison threshold data are retained in standby mode."

## MAX6655MEE-T
designator U?
Dual Remote / Local Temperature Sensor and Four-Channel Voltage Monitor, 11 Bits Temperature Resolution, -55 to 125 degC, 16-Pin SOP (E16-5),Tape and Reel; Generic Part Number: MAX6655; PartNumber: MAX6655MEE-T; Alarm Output: Alert, Overt; Functions: Remote & Local Sensor, Voltage Monitor; Interface: 2-Wire/I2C/SMBus; Multi Droppable: Yes; Parasite Pwr.: No; DatasheetVersion: Rev. 1; PackageVersion: Rev. K, 04/2012; PackageReference: E16-5; PackageDescription: 16-Pin Quarter Small-Outline Package, Body 3.9 x 4.89 mm, Pitch 0.635 mm; Supplier 1: Mouser; Supplier Part Number 1: N/A; Packing: Tape and Reel; Mounting Technology: Surface Mount; Code_JEDEC: MO-137; ComponentLink1Description: Manufacturer URL; ComponentLink1URL: http://www.maximintegrated.com/; ComponentLink2Description: Datasheet; ComponentLink2URL: http://datasheets.maximintegrated.com/en/ds/MAX6655-MAX6656.pdf; ComponentLink3Description: Package Specification; ComponentLink3URL: http://pdfserv.maximintegrated.com/package_dwgs/21-0055.PDF
footprint MAXM-E16-5_N (SOP, 16-Leads, Body 4.89x3.9mm, Pitch 0.635mm, IPC Medium Density)
footprint MAXM-E16-5_L (SOP, 16-Leads, Body 4.89x3.9mm, Pitch 0.635mm, IPC High Density)
footprint MAXM-E16-5_M (SOP, 16-Leads, Body 4.89x3.9mm, Pitch 0.635mm, IPC Low Density)
pins: 1 VCC (power) "Supply Voltage. +5V for MAX6655; +3.3V for MAX6656. Bypass VCC to GND with a 0.1µF capacitor.", 2 DXP1 "External Diode 1 Positive Connection. DXP1 is the combined current source and ADC positive input for remote-diode 1. If a remote-sensing junction is not used, connect DXP1 to DXN1.", 3 DXN1 "External Diode 1 Negative Connection. DXN1 is the combined current sink and ADC negative input for remote-diode 1. DXN1 is normally biased to a diode voltage above ground.", 4 ADD0 (in) "SMBus Slave Address Select Input. ADD0 and ADD1 are sampled upon power-up. Table 5 is the truth table", 5 ADD1 (in) "SMBus Slave Address Select Input. ADD0 and ADD1 are sampled upon power-up.", 6 DXP2 "External Diode 2 Positive Connection. DXP2 is the combined current source and ADC positive input for remote-diode 2. If a remote-sensing junction is not used, connect DXP2 to DXN2.", 7 DXN2 "External Diode 2 Negative Connection. DXN2 is the combined current sink and ADC negative input for remote-diode 2. DXN2 is normally biased to a diode voltage above ground.", 8 GND (power) "Ground", 9 VIN3 (in) "External Voltage Monitor 3. VIN3 is typically used to monitor +2.5V supplies.", 10 VIN1 (in) "External Voltage Monitor 1. VIN1 is typically used to monitor +12V supplies.", 11 VIN2 (in) "External Voltage Monitor 2. VIN2 is typically used to monitor voltage supplies of +3.3V for MAX6655 and +5.0V for MAX6656.", 12 ~{ALERT} (oc) "SMBus Alert (Interrupt) Output, Open-Drain", 13 SMBDATA (io) "SMBus Serial-Data Input/Output, Open-Drain", 14 ~{OVERT} (oc) "Overtemperature Alarm Output, Open-Drain. O\V\E\R\T\ is an unlatched alarm output that responds to the programmed maximum temperature limit for all temperature channels.", 15 SMBCLK (in) "SMBus Serial-Clock Input", 16 ~{STBY} (in) "Hardware Standby Input. Drive S\T\B\Y\ low for low-power standby mode. Drive S\T\B\Y\ high for normal operating mode. Temperature and comparison threshold data are retained in standby mode."

## MAX6656MEE
designator U?
Dual Remote / Local Temperature Sensor and Four-Channel Voltage Monitor, 11 Bits Temperature Resolution, -55 to 125 degC, 16-Pin SOP (E16+5); Generic Part Number: MAX6656; PartNumber: MAX6656MEE; Alarm Output: Alert, Overt; Functions: Remote & Local Sensor, Voltage Monitor; Interface: 2-Wire/I2C/SMBus; Multi Droppable: Yes; Parasite Pwr.: No; DatasheetVersion: Rev. 1; PackageVersion: Rev. K, 04/2012; PackageReference: E16-5; PackageDescription: 16-Pin Quarter Small-Outline Package, Body 3.9 x 4.89 mm, Pitch 0.635 mm; Supplier 1: Digi-Key; Supplier Part Number 1: MAX6656MEE-ND; Supplier 2: Mouser; Supplier Part Number 2: 700-MAX6656MEE-NR; Mounting Technology: Surface Mount; Code_JEDEC: MO-137; ComponentLink1Description: Manufacturer URL; ComponentLink1URL: http://www.maximintegrated.com/; ComponentLink2Description: Datasheet; ComponentLink2URL: http://datasheets.maximintegrated.com/en/ds/MAX6655-MAX6656.pdf; ComponentLink3Description: Package Specification; ComponentLink3URL: http://pdfserv.maximintegrated.com/package_dwgs/21-0055.PDF
footprint MAXM-E16-5_N (SOP, 16-Leads, Body 4.89x3.9mm, Pitch 0.635mm, IPC Medium Density)
footprint MAXM-E16-5_L (SOP, 16-Leads, Body 4.89x3.9mm, Pitch 0.635mm, IPC High Density)
footprint MAXM-E16-5_M (SOP, 16-Leads, Body 4.89x3.9mm, Pitch 0.635mm, IPC Low Density)
pins: 1 VCC (power) "Supply Voltage. +5V for MAX6655; +3.3V for MAX6656. Bypass VCC to GND with a 0.1uF capacitor.", 2 DXP1 "External Diode 1 Positive Connection. DXP1 is the combined current source and ADC positive input for remote-diode 1. If a remote-sensing junction is not used, connect DXP1 to DXN1.", 3 DXN1 "External Diode 1 Negative Connection. DXN1 is the combined current sink and ADC negative input for remote-diode 1. DXN1 is normally biased to a diode voltage above ground.", 4 ADD0 (in) "SMBus Slave Address Select Input. ADD0 and ADD1 are sampled upon power-up. Table 5 is the truth table.", 5 ADD1 (in) "SMBus Slave Address Select Input. ADD0 and ADD1 are sampled upon power-up.", 6 DXP2 "External Diode 2 Positive Connection. DXP2 is the combined current source and ADC positive input for remote-diode 2. If a remote-sensing junction is not used, connect DXP2 to DXN2.", 7 DXN2 "External Diode 2 Negative Connection. DXN2 is the combined current sink and ADC negative input for remote-diode 2. DXN2 is normally biased to a diode voltage above ground.", 8 GND (power) "Ground", 9 VIN3 (in) "External Voltage Monitor 3. VIN3 is typically used to monitor +2.5V supplies.", 10 VIN1 (in) "External Voltage Monitor 1. VIN1 is typically used to monitor +12V supplies.", 11 VIN2 (in) "External Voltage Monitor 2. VIN2 is typically used to monitor voltage supplies of +3.3V for MAX6655 and +5.0V for MAX6656.", 12 ~{ALERT} (oc) "SMBus Alert (Interrupt) Output, Open-Drain", 13 SMBDATA (io) "SMBus Serial-Data Input/Output, Open-Drain", 14 ~{OVERT} (oc) "Overtemperature Alarm Output, Open-Drain. O\V\E\R\T\ is an unlatched alarm output that responds to the programmed maximum temperature limit for all temperature channels.", 15 SMBCLK (in) "SMBus Serial-Clock Input", 16 ~{STBY} (in) "Hardware Standby Input. Drive S\T\B\Y\ low for low-power standby mode. Drive S\T\B\Y\ high for normal operating mode. Temperature and comparison threshold data are retained in standby mode."

## MAX6656MEE+
designator U?
Dual Remote / Local Temperature Sensor and Four-Channel Voltage Monitor, 11 Bits Temperature Resolution, -55 to 125 degC, 16-Pin SOP (E16+5), Pb-Free; Generic Part Number: MAX6656; PartNumber: MAX6656MEE+; Alarm Output: Alert, Overt; Functions: Remote & Local Sensor, Voltage Monitor; Interface: 2-Wire/I2C/SMBus; Multi Droppable: Yes; Parasite Pwr.: No; DatasheetVersion: Rev. 1; PackageVersion: Rev. K, 04/2012; PackageReference: E16+5; PackageDescription: 16-Pin Quarter Small-Outline Package, Body 3.9 x 4.89 mm, Pitch 0.635 mm; Supplier 1: Digi-Key; Supplier Part Number 1: MAX6656MEE+-ND; Supplier 2: Farnell; Supplier Part Number 2: 1380013; Supplier 3: Newark; Supplier Part Number 3: 37K8066; Supplier 4: Mouser; Supplier Part Number 4: 700-MAX6656MEE; Mounting Technology: Surface Mount; Code_JEDEC: MO-137; ComponentLink1Description: Manufacturer URL; ComponentLink1URL: http://www.maximintegrated.com/; ComponentLink2Description: Datasheet; ComponentLink2URL: http://datasheets.maximintegrated.com/en/ds/MAX6655-MAX6656.pdf; ComponentLink3Description: Package Specification; ComponentLink3URL: http://pdfserv.maximintegrated.com/package_dwgs/21-0055.PDF
footprint MAXM-E16+5_N (SOP, 16-Leads, Body 4.89x3.9mm, Pitch 0.635mm, IPC Medium Density)
footprint MAXM-E16+5_L (SOP, 16-Leads, Body 4.89x3.9mm, Pitch 0.635mm, IPC High Density)
footprint MAXM-E16+5_M (SOP, 16-Leads, Body 4.89x3.9mm, Pitch 0.635mm, IPC Low Density)
pins: 1 VCC (power) "Supply Voltage. +5V for MAX6655; +3.3V for MAX6656. Bypass VCC to GND with a 0.1uF capacitor.", 2 DXP1 "External Diode 1 Positive Connection. DXP1 is the combined current source and ADC positive input for remote-diode 1. If a remote-sensing junction is not used, connect DXP1 to DXN1.", 3 DXN1 "External Diode 1 Negative Connection. DXN1 is the combined current sink and ADC negative input for remote-diode 1. DXN1 is normally biased to a diode voltage above ground.", 4 ADD0 (in) "SMBus Slave Address Select Input. ADD0 and ADD1 are sampled upon power-up. Table 5 is the truth table.", 5 ADD1 (in) "SMBus Slave Address Select Input. ADD0 and ADD1 are sampled upon power-up.", 6 DXP2 "External Diode 2 Positive Connection. DXP2 is the combined current source and ADC positive input for remote-diode 2. If a remote-sensing junction is not used, connect DXP2 to DXN2.", 7 DXN2 "External Diode 2 Negative Connection. DXN2 is the combined current sink and ADC negative input for remote-diode 2. DXN2 is normally biased to a diode voltage above ground.", 8 GND (power) "Ground", 9 VIN3 (in) "External Voltage Monitor 3. VIN3 is typically used to monitor +2.5V supplies.", 10 VIN1 (in) "External Voltage Monitor 1. VIN1 is typically used to monitor +12V supplies.", 11 VIN2 (in) "External Voltage Monitor 2. VIN2 is typically used to monitor voltage supplies of +3.3V for MAX6655 and +5.0V for MAX6656.", 12 ~{ALERT} (oc) "SMBus Alert (Interrupt) Output, Open-Drain", 13 SMBDATA (io) "SMBus Serial-Data Input/Output, Open-Drain", 14 ~{OVERT} (oc) "Overtemperature Alarm Output, Open-Drain. O\V\E\R\T\ is an unlatched alarm output that responds to the programmed maximum temperature limit for all temperature channels.", 15 SMBCLK (in) "SMBus Serial-Clock Input", 16 ~{STBY} (in) "Hardware Standby Input. Drive S\T\B\Y\ low for low-power standby mode. Drive S\T\B\Y\ high for normal operating mode. Temperature and comparison threshold data are retained in standby mode."

## MAX6656MEE+T
designator U?
Dual Remote / Local Temperature Sensor and Four-Channel Voltage Monitor, 11 Bits Temperature Resolution, -55 to 125 degC, 16-Pin SOP (E16+5), Pb-Free, Tape and Reel; Generic Part Number: MAX6656; PartNumber: MAX6656MEE+T; Alarm Output: Alert, Overt; Functions: Remote & Local Sensor, Voltage Monitor; Interface: 2-Wire/I2C/SMBus; Multi Droppable: Yes; Parasite Pwr.: No; DatasheetVersion: Rev. 1; PackageVersion: Rev. K, 04/2012; PackageReference: E16+5; PackageDescription: 16-Pin Quarter Small-Outline Package, Body 3.9 x 4.89 mm, Pitch 0.635 mm; Supplier 1: Digi-Key; Supplier Part Number 1: MAX6656MEE+TTR-ND; Supplier 2: Digi-Key; Supplier Part Number 2: MAX6656MEE+TCT-ND; Supplier 3: Digi-Key; Supplier Part Number 3: MAX6656MEE+TDKR-ND; Supplier 4: Mouser; Supplier Part Number 4: 700-MAX6656MEET; Packing: Tape and Reel; Mounting Technology: Surface Mount; Code_JEDEC: MO-137; ComponentLink1Description: Manufacturer URL; ComponentLink1URL: http://www.maximintegrated.com/; ComponentLink2Description: Datasheet; ComponentLink2URL: http://datasheets.maximintegrated.com/en/ds/MAX6655-MAX6656.pdf; ComponentLink3Description: Package Specification; ComponentLink3URL: http://pdfserv.maximintegrated.com/package_dwgs/21-0055.PDF
footprint MAXM-E16+5_N (SOP, 16-Leads, Body 4.89x3.9mm, Pitch 0.635mm, IPC Medium Density)
footprint MAXM-E16+5_L (SOP, 16-Leads, Body 4.89x3.9mm, Pitch 0.635mm, IPC High Density)
footprint MAXM-E16+5_M (SOP, 16-Leads, Body 4.89x3.9mm, Pitch 0.635mm, IPC Low Density)
pins: 1 VCC (power) "Supply Voltage. +5V for MAX6655; +3.3V for MAX6656. Bypass VCC to GND with a 0.1uF capacitor.", 2 DXP1 "External Diode 1 Positive Connection. DXP1 is the combined current source and ADC positive input for remote-diode 1. If a remote-sensing junction is not used, connect DXP1 to DXN1.", 3 DXN1 "External Diode 1 Negative Connection. DXN1 is the combined current sink and ADC negative input for remote-diode 1. DXN1 is normally biased to a diode voltage above ground.", 4 ADD0 (in) "SMBus Slave Address Select Input. ADD0 and ADD1 are sampled upon power-up. Table 5 is the truth table.", 5 ADD1 (in) "SMBus Slave Address Select Input. ADD0 and ADD1 are sampled upon power-up.", 6 DXP2 "External Diode 2 Positive Connection. DXP2 is the combined current source and ADC positive input for remote-diode 2. If a remote-sensing junction is not used, connect DXP2 to DXN2.", 7 DXN2 "External Diode 2 Negative Connection. DXN2 is the combined current sink and ADC negative input for remote-diode 2. DXN2 is normally biased to a diode voltage above ground.", 8 GND (power) "Ground", 9 VIN3 (in) "External Voltage Monitor 3. VIN3 is typically used to monitor +2.5V supplies.", 10 VIN1 (in) "External Voltage Monitor 1. VIN1 is typically used to monitor +12V supplies.", 11 VIN2 (in) "External Voltage Monitor 2. VIN2 is typically used to monitor voltage supplies of +3.3V for MAX6655 and +5.0V for MAX6656.", 12 ~{ALERT} (oc) "SMBus Alert (Interrupt) Output, Open-Drain", 13 SMBDATA (io) "SMBus Serial-Data Input/Output, Open-Drain", 14 ~{OVERT} (oc) "Overtemperature Alarm Output, Open-Drain. O\V\E\R\T\ is an unlatched alarm output that responds to the programmed maximum temperature limit for all temperature channels.", 15 SMBCLK (in) "SMBus Serial-Clock Input", 16 ~{STBY} (in) "Hardware Standby Input. Drive S\T\B\Y\ low for low-power standby mode. Drive S\T\B\Y\ high for normal operating mode. Temperature and comparison threshold data are retained in standby mode."